# Altium integrated library AEVC-lib.IntLib: 10 symbols
Pins are listed as number, name and electrical type; pins without a type are passive.

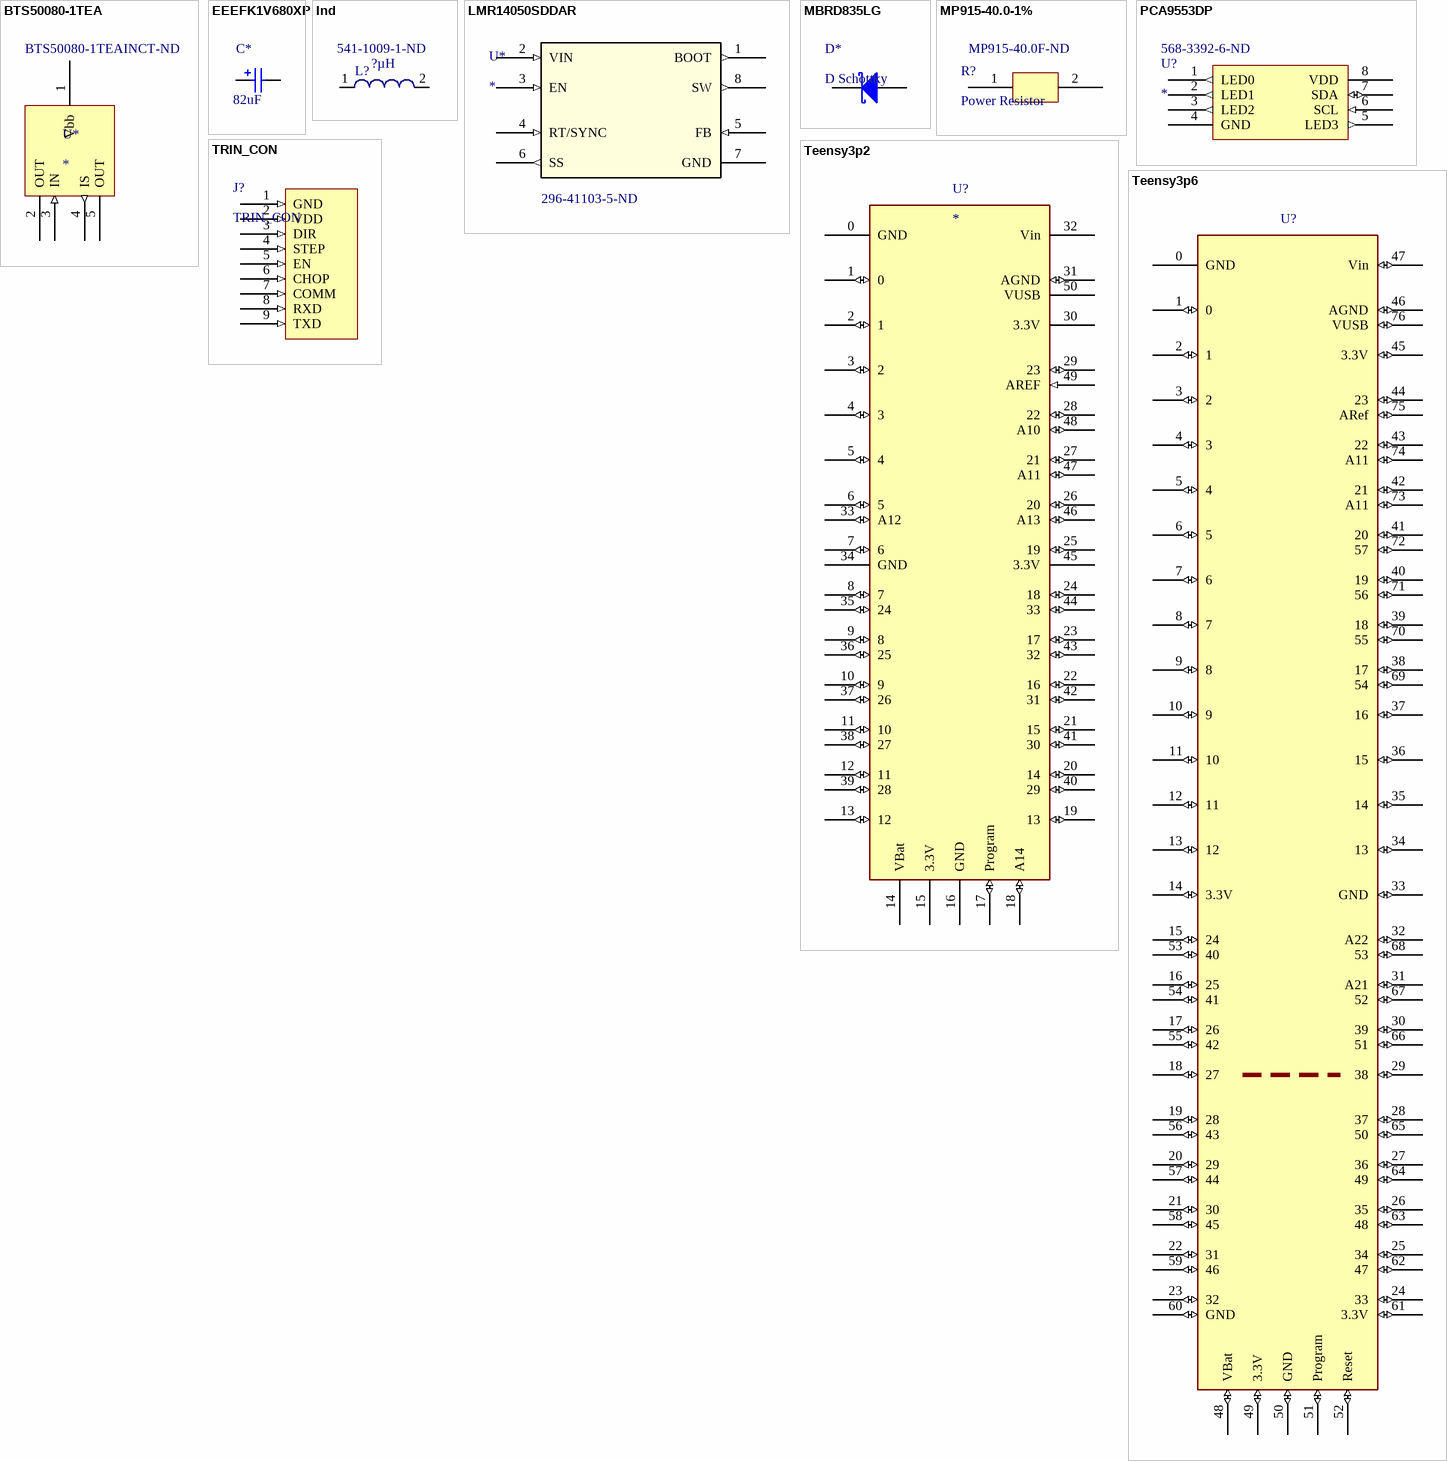
[diagram p0: symbols BTS50080-1TEA to TRIN_CON]

## BTS50080-1TEA
designator U*  Supplier Part Number 1: BTS50080-1TEAINCT-ND
Smart High-Side Power Switch; Supplier 1: Digi-Key
footprint BTS50080 (Smart High-Side Power Switch)
pins: 1 Vbb (power), 2 OUT (power), 3 IN (in), 4 IS (out), 5 OUT (power)

## EEEFK1V680XP
designator C*  value 82uF  (hidden comment: *)
Polarized Capacitor (Surface Mount); Manufacturer_Part_Number: EEEFK1V680XP; Vendor: Panasonic; Built_By: EMA_UL_Team; C: Copyright (C) 2015 Accelerated Designs. All rights reserved; Supplier 1: Digi-Key; Supplier Part Number 1: P18960DKR-ND
footprint CAP_EEFK_D8
pins: 1, 2

## Ind
designator L?  value ?µH  Supplier Part Number 1: 541-1009-1-ND  (hidden comment: Ind)
Inductor; Supplier 1: Digi-Key
footprint IHLP-2525C7 (Chip Inductor, 2-Leads, Body 6.47x6.47mm, IPC Medium Density)
pins: 1, 2

## LMR14050SDDAR
designator U*  Supplier Part Number 1: 296-41103-5-ND
dc-dc converter; Manufacturer_Part_Number: LMR14050SDDAR; Vendor: Texas Instruments; Built_By: EMA_UL_Team; C: Copyright (C) 2016 Accelerated Designs. All rights reserved; Value: Value; Type: Type; RefDes: RefDes; Supplier 1: Digi-Key
footprint DDA8
pins: 1 BOOT (out), 2 VIN (in), 3 EN (in), 4 RT/SYNC (in), 5 FB (in), 6 SS (out), 7 GND (power), 8 SW (out)

## MBRD835LG
designator D*, comment D Schottky
Schottky barrier rectifyer, 8.0A, 35V; Supplier 1: Digi-Key; Supplier Part Number 1: MBRD835LGOS-ND
footprint DPAK (Switch mode power recifyer IC)
pins: 1 A, 2 K

## MP915-40.0-1%
designator R?, comment Power Resistor  Supplier Part Number 1: MP915-40.0F-ND
Supplier 1: Digi-Key
footprint MP915
pins: 1 (power), 2 (power)

## PCA9553DP
designator U?  Supplier Part Number 1: 568-3392-6-ND
LED Driver, I2C; Supplier 1: Digi-Key
footprint TSSOP8
pins: 1 LED0 (out), 2 LED1 (out), 3 LED2 (out), 4 GND (power), 5 LED3 (out), 6 SCL (in), 7 SDA (io), 8 VDD (power)

## Teensy3p2
designator U?
footprint Teensy3p2_full (TH, all pins)
pins: 0 GND (power), 1 0 (io), 2 1 (io), 3 2 (io), 4 3 (io), 5 4 (io), 6 5 (io), 7 6 (io), 8 7 (io), 9 8 (io), 10 9 (io), 11 10 (io), 12 11 (io), 13 12 (io), 14 VBat (power), 15 3.3V (power), 16 GND (power), 17 Program (io), 18 A14 (io), 19 13 (io), 20 14 (io), 21 15 (io), 22 16 (io), 23 17 (io), 24 18 (io), 25 19 (io), 26 20 (io), 27 21 (io), 28 22 (io), 29 23 (io), 30 3.3V (power), 31 AGND (io), 32 Vin (power), 33 A12 (io), 34 GND (power), 35 24 (io), 36 25 (io), 37 26 (io), 38 27 (io), 39 28 (io), 40 29 (io), 41 30 (io), 42 31 (io), 43 32 (io), 44 33 (io), 45 3.3V (power), 46 A13 (io), 47 A11 (io), 48 A10 (io), 49 AREF (in), 50 VUSB (power)

## Teensy3p6
designator U?
footprint Teensy3p6_full (TH, all pins)
pins: 0 GND (power), 1 0 (io), 2 1 (io), 3 2 (io), 4 3 (io), 5 4 (io), 6 5 (io), 7 6 (io), 8 7 (io), 9 8 (io), 10 9 (io), 11 10 (io), 12 11 (io), 13 12 (io), 14 3.3V (io), 15 24 (io), 16 25 (io), 17 26 (io), 18 27 (io), 19 28 (io), 20 29 (io), 21 30 (io), 22 31 (io), 23 32 (io), 24 33 (io), 25 34 (io), 26 35 (io), 27 36 (io), 28 37 (io), 29 38 (io), 30 39 (io), 31 A21 (io), 32 A22 (io), 33 GND (io), 34 13 (io), 35 14 (io), 36 15 (io), 37 16 (io), 38 17 (io), 39 18 (io), 40 19 (io), 41 20 (io), 42 21 (io), 43 22 (io), 44 23 (io), 45 3.3V (io), 46 AGND (io), 47 Vin (io), 48 VBat (io), 49 3.3V (io), 50 GND (io), 51 Program (io), 52 Reset (io), 53 40 (io), 54 41 (io), 55 42 (io), 56 43 (io), 57 44 (io), 58 45 (io), 59 46 (io), 60 GND (io), 61 3.3V (io), 62 47 (io), 63 48 (io), 64 49 (io), 65 50 (io), 66 51 (io), 67 52 (io), 68 53 (io), 69 54 (io), 70 55 (io), 71 56 (io), 72 57 (io), 73 A11 (io), 74 A11 (io), 75 ARef (io), 76 VUSB (io)

## TRIN_CON
designator J?
connector; Supplier 1: Digi-Key; Supplier Part Number 1: 455-1756-1-ND
pins: 1 GND (in), 2 VDD (in), 3 DIR (in), 4 STEP (in), 5 EN (in), 6 CHOP (in), 7 COMM (in), 8 RXD (in), 9 TXD (in)